# Altium schematic symbol library TXB0104DR.SchLib: 1 symbol
Pins are listed as number, name and electrical type; pins without a type are passive.

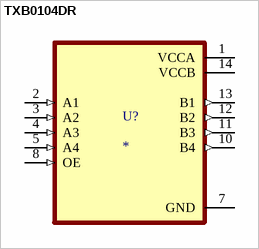
[diagram p0: symbol TXB0104DR]

## TXB0104DR
designator U?
MP: TXB0104DR; MF: {'manufacturer': u'Texas Instruments'}; Value: *; Availability: Unavailable; Package: None; Price: None
footprint SOIC127P600X175-14N
pins: 1 VCCA (power), 2 A1 (in), 3 A2 (in), 4 A3 (in), 5 A4 (in), 7 GND (power), 8 OE (in), 10 B4 (out), 11 B3 (out), 12 B2 (out), 13 B1 (out), 14 VCCB (power)